# Altium footprint library components_top.PcbLib: 3 footprints
Each footprint in its own frame and in the unit in brackets; x right, y up, seen from the top. Pads: shape width x height; smd on the part's side, far side on the other; paste and mask are expansions set on the pad; w line width, h text height; cw(c..) or ccw(c..) is an arc to the next point about the centre after c.
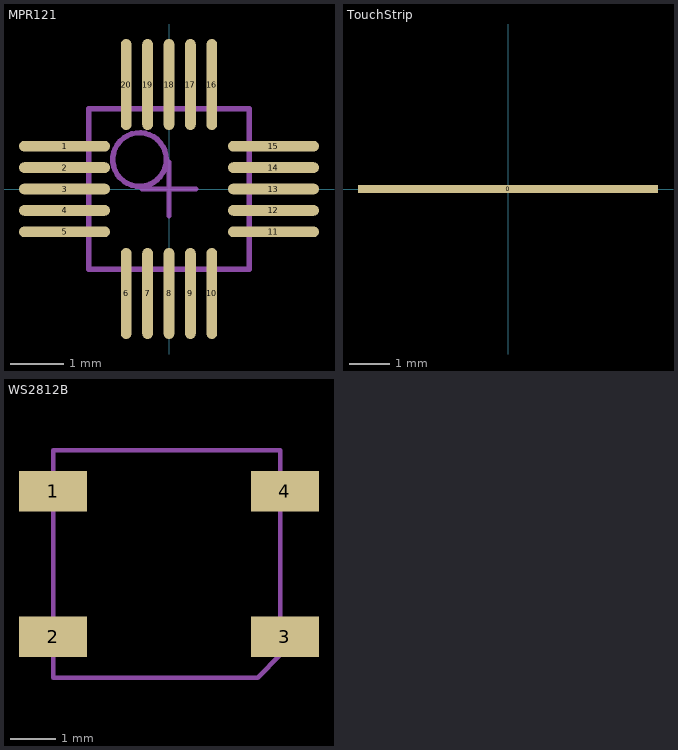
[diagram p0: the footprints below, top view; thin cyan lines are the x and y axes]

## MPR121 [mm]
pads (20):
  oval 1.7x0.2 smd: 1(-1.95,0.8) 2(-1.95,0.4) 3(-1.95,0) 4(-1.95,-0.4) 5(-1.95,-0.8) 11(1.95,-0.8) 12(1.95,-0.4) 13(1.95,0) 14(1.95,0.4) 15(1.95,0.8)
  oval 0.2x1.7 smd: 6(-0.8,-1.95) 7(-0.4,-1.95) 8(0,-1.95) 9(0.4,-1.95) 10(0.8,-1.95) 16(0.8,1.95) 17(0.4,1.95) 18(0,1.95) 19(-0.4,1.95) 20(-0.8,1.95)
Mechanical 13:
  circle w0.1: c-0.55,0.55 r0.5
  lines w0.1: -1.5,-1.5 -1.5,1.5 1.5,1.5 1.5,-1.5 -1.5,-1.5
Mechanical 15:
  lines w0.1: -0.5,0 0.5,0 ; 0,-0.5 0,0.5
3D body: height 0.6, standoff 0.01, extent -1.5,-1.5 1.5,1.5

## TouchStrip [mil]
pads (1):
  rect 295x8 smd: 0(0,0)

## WS2812B [mm]
pads (4):
  rect 1.5x0.9 smd: 1(13.991,11.076) 2(13.991,7.876) 3(19.091,7.876) 4(19.091,11.076)
Mechanical 13:
  lines w0.1: 13.991,6.976 18.491,6.976 18.991,7.476 18.991,11.976 13.991,11.976 13.991,6.976
3D body: height 0.6, standoff 0.01, extent 13.991,6.976 18.991,11.976